# EAGLE library part 5560ИН1Т (library transceivers)
АЕЯР.431200.765-01 ТУ 5560ИН1Т– 4-разрядный дифференциальный магистральный передатчик последовательных данных по стандарту LVDS. Микросхема представляет собой сверхбыстродействующий интерфейсный счетверенный линейный передатчик с дифференциальным выходом стандарта LVDS.
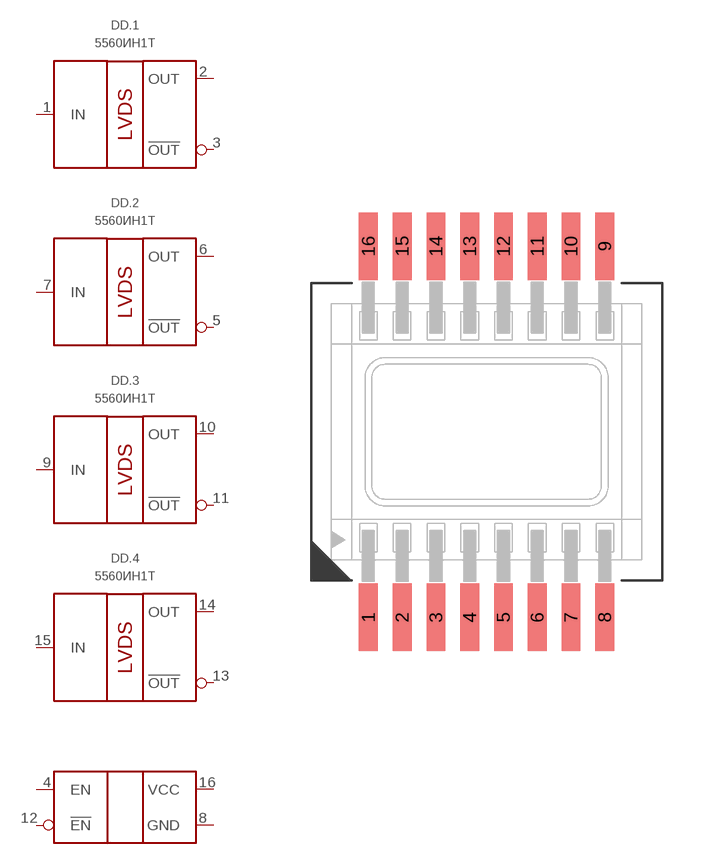
[diagram p10: symbol with the pads of 402.16-32; footprint 402.16-32]

Designator prefix DD; gates .2=5560ИН1Т .3=5560ИН1Т .1=5560ИН1Т .4=5560ИН1Т G$5=LVDS_PWR

## 5560ИН1Т  [402.16-32]
1  .1:IN  in
2  .1:OUT  out
3  .1:!OUT  out
4  G$5:EN  in
5  .2:!OUT  out
6  .2:OUT  out
7  .2:IN  in
8  G$5:GND  pwr
9  .3:IN  in
10  .3:OUT  out
11  .3:!OUT  out
12  G$5:!EN  in
13  .4:!OUT  out
14  .4:OUT  out
15  .4:IN  in
16  G$5:VCC  pwr

## Footprint 402.16-32 (pad centres in mm)
smd 0.7 x 2.5: 1 -4.375,-6.875; 2 -3.125,-6.875; 3 -1.875,-6.875; 4 -0.625,-6.875; 5 0.625,-6.875; 6 1.875,-6.875; 7 3.125,-6.875; 8 4.375,-6.875; 9 4.375,6.875; 10 3.125,6.875; 11 1.875,6.875; 12 0.625,6.875; 13 -0.625,6.875; 14 -1.875,6.875; 15 -3.125,6.875; 16 -4.375,6.875